# Altium footprint library EMG_Electrode_Adapter.PcbLib: 2 footprints
Each footprint in its own frame and in the unit in brackets; x right, y up, seen from the top. Pads: shape width x height; smd on the part's side, far side on the other; paste and mask are expansions set on the pad; w line width, h text height; cw(c..) or ccw(c..) is an arc to the next point about the centre after c.
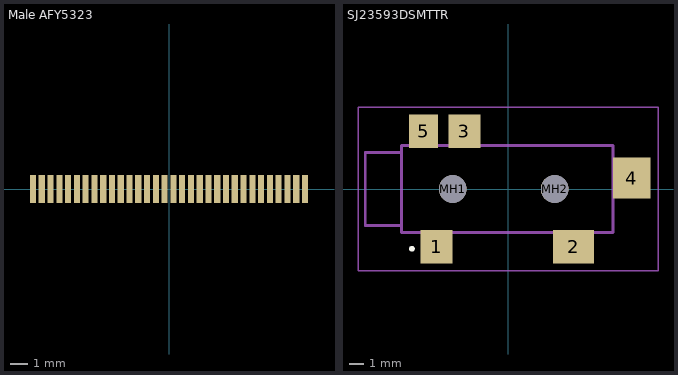
[diagram p0: the footprints below, top view; thin cyan lines are the x and y axes]

## Male AFY5323 [mm]
pads (32):
  rect 0.35x1.6 smd: 1(-7.75,0) 2(-7.25,0) 3(-6.75,0) 4(-6.25,0) 5(-5.75,0) 6(-5.25,0) 7(-4.75,0) 8(-4.25,0) 9(-3.75,0) 10(-3.25,0) 11(-2.75,0) 12(-2.25,0) 13(-1.75,0) 14(-1.25,0) 15(-0.75,0) 16(-0.25,0) 17(0.25,0) 18(0.75,0) 19(1.25,0) 20(1.75,0) 21(2.25,0) 22(2.75,0) 23(3.25,0) 24(3.75,0) 25(4.25,0) 26(4.75,0) 27(5.25,0) 28(5.75,0) 29(6.25,0) 30(6.75,0) 31(7.25,0) 32(7.75,0)

## SJ23593DSMTTR [mm]
pads (7):
  rect 2.2x2.3 smd: 1(-4.9,-3.95) 3(-3,3.95)
  rect 2.8x2.3 smd: 2(4.5,-3.95)
  rect 2.6x2.8 smd: 4(8.5,0.75)
  rect 2x2.3 smd: 5(-5.8,3.95)
  round 1.9 hole 1.9 unplated: MH1(-3.8,0) MH2(3.2,0)
Top Overlay:
  lines w0.2: -6.6,-4.2 ccw(c-6.6,-4.1) -6.6,-4 ccw(c-6.6,-4.1) -6.6,-4.2
Mechanical 3:
  lines w0.1: -10.3,-5.6 -10.3,5.6 10.3,5.6 10.3,-5.6 -10.3,-5.6
  lines w0.2: -9.8,-2.5 -7.3,-2.5 -7.3,2.5 -9.8,2.5 -9.8,-2.5 ; -7.3,-3 -7.3,3 7.2,3 7.2,-3 -7.3,-3
Mechanical 7:
  lines w0.1: -7.3,3 -7.3,-3 -6.8,-3 ; -3.3,-3 2.2,-3 ; -1.3,3 7.2,3 ; 6.7,-3 7.2,-3 7.2,-1.5